# Altium footprint library Transistors.PcbLib: 36 footprints (part 2 of 3)
Each footprint in its own frame and in the unit in brackets; x right, y up, seen from the top. Pads: shape width x height; smd on the part's side, far side on the other; paste and mask are expansions set on the pad; w line width, h text height; cw(c..) or ccw(c..) is an arc to the next point about the centre after c.
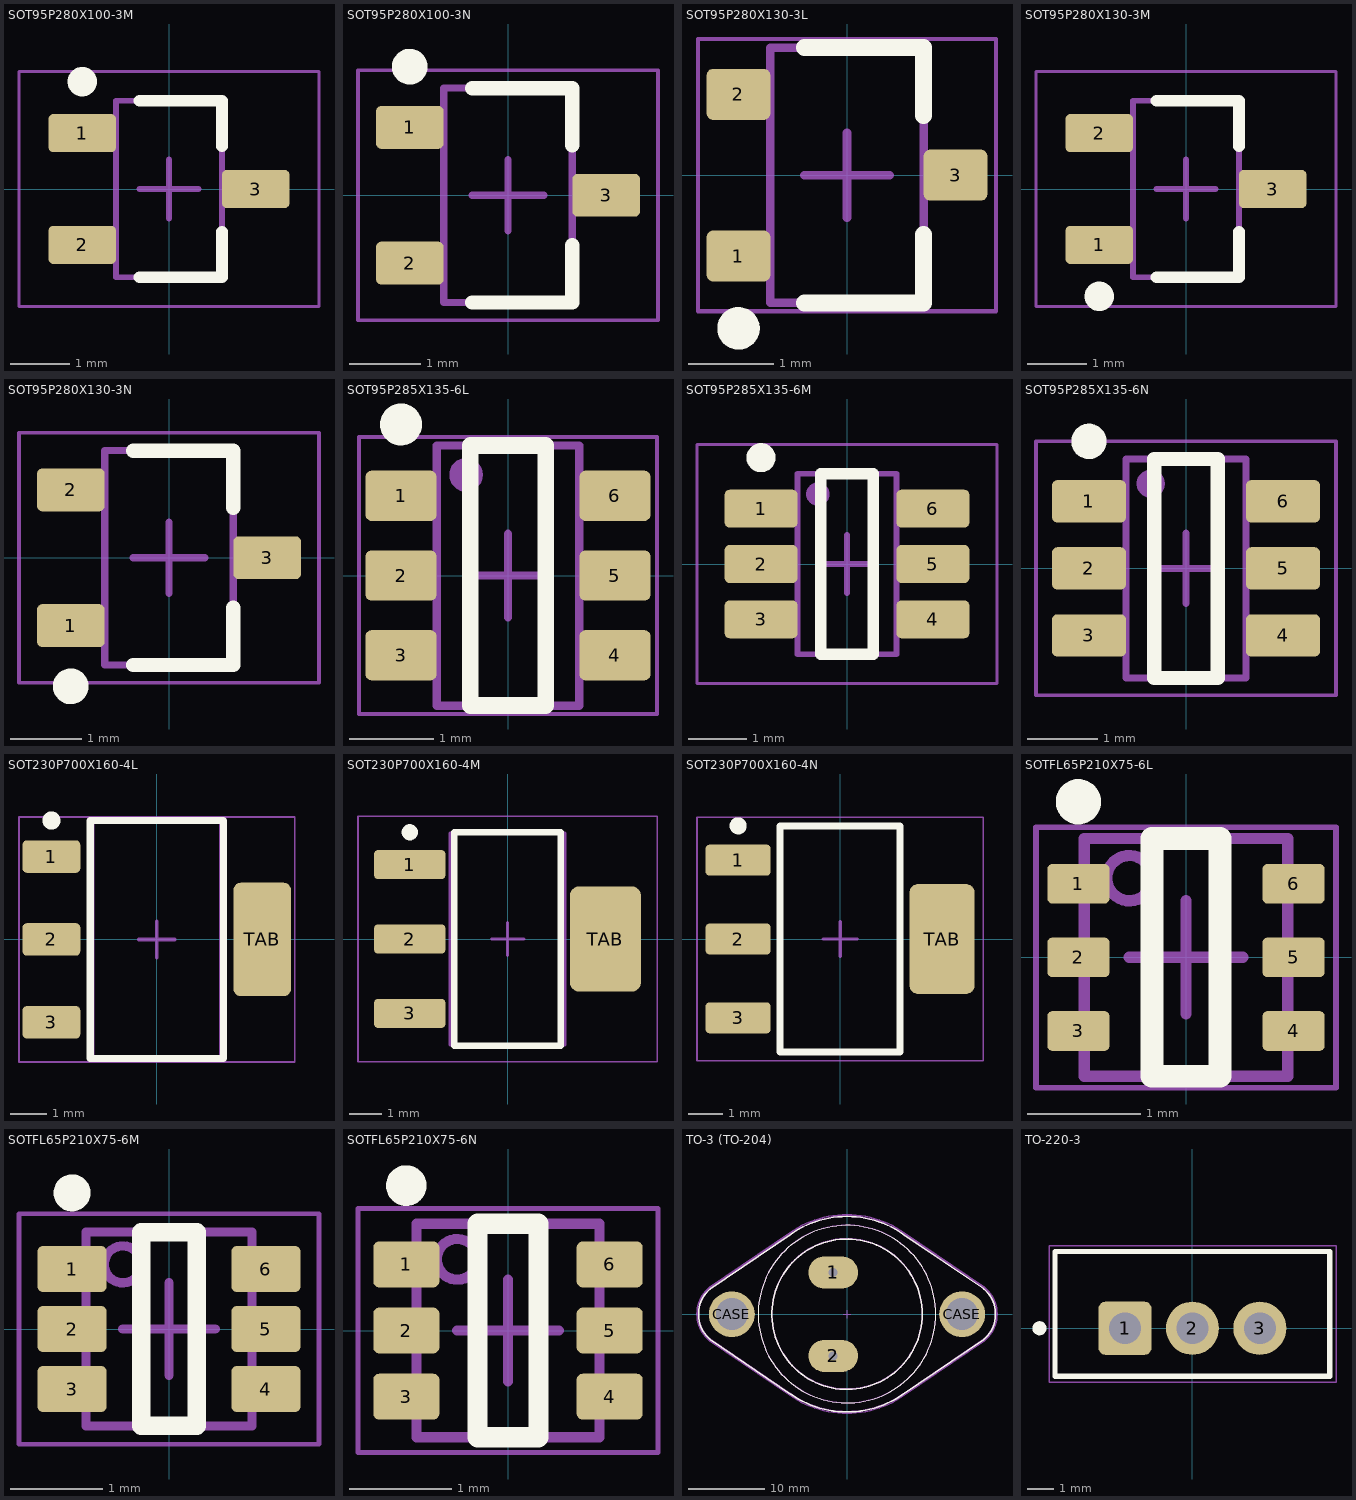
[diagram p1: the footprints below, top view; thin cyan lines are the x and y axes]

## SOT95P280X100-3M [mm] "SOT23, 3-Leads, Body 2.90x2.80mm, Pitch 0.95mm, IPC Low Density"
height 1
pads (3):
  rrect25% 1.15x0.65 smd paste+0 mask+0.05: 1(-1.475,0.95) 2(-1.475,-0.95) 3(1.475,0)
Top Overlay:
  circle w0.25: c-1.475,1.825 r0.125
  lines w0.2: -0.5,-1.5 0.9,-1.5 0.9,-0.725 ; -0.5,1.5 0.9,1.5 0.9,0.725
Top Component Outline:
  lines w0.1: -0.9,-1.5 0.9,-1.5 0.9,1.5 -0.9,1.5 -0.9,-1.5
Top Courtyard:
  lines w0.05: -2.55,-2 -2.55,2 2.55,2 2.55,-2 -2.55,-2
Top Component Center:
  lines w0.1: -0.5,0 0.5,0 ; 0,-0.5 0,0.5
Top Designator:
  text ".Designator" at -4.04,-0.476 h2
Top Assembly:
  lines w0.1: -0.9,-1.5 -0.9,1.5 0.9,1.5 0.9,-1.5 -0.9,-1.5
  text ".Designator" at -4.04,-0.476 h2
3D body "SOT95P280X100-3.step": height 1, standoff 0, extent -1.5,-1.5 1.5,1.5

## SOT95P280X100-3N [mm] "SOT23, 3-Leads, Body 2.90x2.80mm, Pitch 0.95mm, IPC Medium Density"
height 1
pads (3):
  rrect25% 0.95x0.6 smd paste+0 mask+0.05: 1(-1.375,0.95) 2(-1.375,-0.95) 3(1.375,0)
Top Overlay:
  circle w0.25: c-1.375,1.8 r0.125
  lines w0.2: -0.5,-1.5 0.9,-1.5 0.9,-0.7 ; -0.5,1.5 0.9,1.5 0.9,0.7
Top Component Outline:
  lines w0.1: -0.9,-1.5 0.9,-1.5 0.9,1.5 -0.9,1.5 -0.9,-1.5
Top Courtyard:
  lines w0.05: -2.1,-1.75 2.1,-1.75 2.1,1.75 -2.1,1.75 -2.1,-1.75
Top Component Center:
  lines w0.1: -0.5,0 0.5,0 ; 0,-0.5 0,0.5
Top Designator:
  text ".Designator" at -4.04,-0.476 h2
Top Assembly:
  lines w0.1: -0.9,-1.5 0.9,-1.5 0.9,1.5 -0.9,1.5 -0.9,-1.5
  text ".Designator" at -4.04,-0.476 h2
3D body "SOT95P280X100-3.step": height 1, standoff 0, extent -1.5,-1.5 1.5,1.5

## SOT95P280X130-3L [mm] "SOT23, 3-Leads, Body 2.90x2.80mm, Pitch 0.95mm, IPC High Density"
height 1.3
pads (3):
  rrect25% 0.75x0.6 smd paste+0 mask+0.05: 1(-1.275,-0.95) 2(-1.275,0.95) 3(1.275,0)
Top Overlay:
  circle w0.25: c-1.275,-1.8 r0.125
  lines w0.2: -0.5,-1.5 0.9,-1.5 0.9,-0.7 ; -0.5,1.5 0.9,1.5 0.9,0.7
Top Component Outline:
  lines w0.1: -0.9,-1.5 0.9,-1.5 0.9,1.5 -0.9,1.5 -0.9,-1.5
Top Courtyard:
  lines w0.05: -1.75,-1.6 1.75,-1.6 1.75,1.6 -1.75,1.6 -1.75,-1.6
Top Component Center:
  lines w0.1: -0.5,0 0.5,0 ; 0,-0.5 0,0.5
Top Designator:
  text ".Designator" at -4.04,-0.476 h2
Top Assembly:
  lines w0.1: -0.9,-1.5 0.9,-1.5 0.9,1.5 -0.9,1.5 -0.9,-1.5
  text ".Designator" at -4.04,-0.476 h2
3D body "SOT95P280X130-3.step": height 1.3, standoff 0, extent -1.5,-1.5 1.5,1.5

## SOT95P280X130-3M [mm] "SOT23, 3-Leads, Body 2.90x2.80mm, Pitch 0.95mm, IPC Low Density"
height 1.3
pads (3):
  rrect25% 1.15x0.65 smd paste+0 mask+0.05: 1(-1.475,-0.95) 2(-1.475,0.95) 3(1.475,0)
Top Overlay:
  circle w0.25: c-1.475,-1.825 r0.125
  lines w0.2: -0.5,-1.5 0.9,-1.5 0.9,-0.725 ; -0.5,1.5 0.9,1.5 0.9,0.725
Top Component Outline:
  lines w0.1: -0.9,-1.5 0.9,-1.5 0.9,1.5 -0.9,1.5 -0.9,-1.5
Top Courtyard:
  lines w0.05: -2.55,-2 2.55,-2 2.55,2 -2.55,2 -2.55,-2
Top Component Center:
  lines w0.1: -0.5,0 0.5,0 ; 0,-0.5 0,0.5
Top Designator:
  text ".Designator" at -4.04,-0.476 h2
Top Assembly:
  lines w0.1: -0.9,-1.5 0.9,-1.5 0.9,1.5 -0.9,1.5 -0.9,-1.5
  text ".Designator" at -4.04,-0.476 h2
3D body "SOT95P280X130-3.step": height 1.3, standoff 0, extent -1.5,-1.5 1.5,1.5

## SOT95P280X130-3N [mm] "SOT23, 3-Leads, Body 2.90x2.80mm, Pitch 0.95mm, IPC Medium Density"
height 1.3
pads (3):
  rrect25% 0.95x0.6 smd paste+0 mask+0.05: 1(-1.375,-0.95) 2(-1.375,0.95) 3(1.375,0)
Top Overlay:
  circle w0.25: c-1.375,-1.8 r0.125
  lines w0.2: -0.5,-1.5 0.9,-1.5 0.9,-0.7 ; -0.5,1.5 0.9,1.5 0.9,0.7
Top Component Outline:
  lines w0.1: -0.9,-1.5 -0.9,1.5 0.9,1.5 0.9,-1.5 -0.9,-1.5
Top Courtyard:
  lines w0.05: -2.1,-1.75 -2.1,1.75 2.1,1.75 2.1,-1.75 -2.1,-1.75
Top Component Center:
  lines w0.1: -0.5,0 0.5,0 ; 0,-0.5 0,0.5
Top Designator:
  text ".Designator" at -4.04,-0.476 h2
Top Assembly:
  lines w0.1: -0.9,-1.5 -0.9,1.5 0.9,1.5 0.9,-1.5 -0.9,-1.5
  text ".Designator" at -4.04,-0.476 h2
3D body "SOT95P280X130-3.step": height 1.3, standoff 0, extent -1.5,-1.5 1.5,1.5

## SOT95P285X135-6L [mm] "SOT23, 6-Leads, Body 3.00x2.85mm, Pitch 0.95mm, IPC High Density"
height 1.35
pads (6):
  rrect25% 0.85x0.6 smd paste+0 mask+0.05: 1(-1.275,0.95) 2(-1.275,0) 3(-1.275,-0.95) 4(1.275,-0.95) 5(1.275,0) 6(1.275,0.95)
Top Overlay:
  circle w0.25: c-1.275,1.8 r0.125
  lines w0.2: -0.45,-1.55 -0.45,1.55 0.45,1.55 0.45,-1.55 -0.45,-1.55
Top Courtyard:
  lines w0.05: -1.775,-1.65 1.775,-1.65 1.775,1.65 -1.775,1.65 -1.775,-1.65
Top Component Center:
  lines w0.1: -0.5,0 0.5,0 ; 0,-0.5 0,0.5
Top Designator:
  text ".Designator" at -4.04,-0.476 h2
Top Assembly:
  circle w0.2: c-0.5,1.2 r0.1
  lines w0.1: -0.85,-1.55 0.85,-1.55 0.85,1.55 -0.85,1.55 -0.85,-1.55
  text ".Designator" at -4.04,-0.476 h2
3D body "SOT95P285X135-6.step": height 1.35, standoff 0, extent -1.5,-1.55 1.5,1.55

## SOT95P285X135-6M [mm] "SOT23, 6-Leads, Body 3.00x2.85mm, Pitch 0.95mm, IPC Low Density"
height 1.35
pads (6):
  rrect25% 1.25x0.65 smd paste+0 mask+0.05: 1(-1.475,0.95) 2(-1.475,0) 3(-1.475,-0.95) 4(1.475,-0.95) 5(1.475,0) 6(1.475,0.95)
Top Overlay:
  circle w0.25: c-1.475,1.825 r0.125
  lines w0.2: -0.45,-1.55 -0.45,1.55 0.45,1.55 0.45,-1.55 -0.45,-1.55
Top Courtyard:
  lines w0.05: -2.575,-2.05 2.575,-2.05 2.575,2.05 -2.575,2.05 -2.575,-2.05
Top Component Center:
  lines w0.1: -0.5,0 0.5,0 ; 0,-0.5 0,0.5
Top Designator:
  text ".Designator" at -4.04,-0.476 h2
Top Assembly:
  circle w0.2: c-0.5,1.2 r0.1
  lines w0.1: -0.85,-1.55 0.85,-1.55 0.85,1.55 -0.85,1.55 -0.85,-1.55
  text ".Designator" at -4.04,-0.476 h2
3D body "SOT95P285X135-6.step": height 1.35, standoff 0, extent -1.5,-1.55 1.5,1.55

## SOT95P285X135-6N [mm] "SOT23, 6-Leads, Body 3.00x2.85mm, Pitch 0.95mm, IPC Medium Density"
height 1.35
pads (6):
  rrect25% 1.05x0.6 smd paste+0 mask+0.05: 1(-1.375,0.95) 2(-1.375,0) 3(-1.375,-0.95) 4(1.375,-0.95) 5(1.375,0) 6(1.375,0.95)
Top Overlay:
  circle w0.25: c-1.375,1.8 r0.125
  lines w0.2: -0.45,-1.55 -0.45,1.55 0.45,1.55 0.45,-1.55 -0.45,-1.55
Top Component Outline:
  lines w0.1: -0.85,-1.55 0.85,-1.55 0.85,1.55 -0.85,1.55 -0.85,-1.55
Top Courtyard:
  lines w0.05: -2.125,-1.8 2.125,-1.8 2.125,1.8 -2.125,1.8 -2.125,-1.8
Top Component Center:
  lines w0.1: -0.5,0 0.5,0 ; 0,-0.5 0,0.5
Top Designator:
  text ".Designator" at -4.04,-0.476 h2
Top Assembly:
  circle w0.2: c-0.5,1.2 r0.1
  lines w0.1: -0.85,-1.55 0.85,-1.55 0.85,1.55 -0.85,1.55 -0.85,-1.55
  text ".Designator" at -4.04,-0.476 h2
3D body "SOT95P285X135-6.step": height 1.35, standoff 0, extent -1.5,-1.55 1.5,1.55

## SOT230P700X160-4L [mm] "SOT223, 4-Leads, Body 6.50x7.00mm (avg), Pitch 2.30mm, IPC High Density"
height 1.6
pads (4):
  rrect25% 1.6x0.9 smd paste+0 mask+0.05: 1(-2.925,2.3) 2(-2.925,0) 3(-2.925,-2.3)
  rrect25% 1.6x3.15 smd paste+0 mask+0.05: TAB(2.925,0)
Top Overlay:
  circle w0.25: c-2.925,3.3 r0.125
  lines w0.2: -1.85,-3.3 -1.85,3.3 1.85,3.3 1.85,-3.3 -1.85,-3.3
Top Component Outline:
  lines w0.1: -1.775,-3.275 1.775,-3.275 1.775,3.275 -1.775,3.275 -1.775,-3.275
Top Courtyard:
  lines w0.05: -3.825,-3.4 -3.825,3.4 3.825,3.4 3.825,-3.4 -3.825,-3.4
Top Component Center:
  lines w0.1: -0.5,0 0.5,0 ; 0,-0.5 0,0.5
Top Designator:
  text ".Designator" at -4.04,-0.476 h2
Top Assembly:
  lines w0.1: -1.775,-3.275 -1.775,3.275 1.775,3.275 1.775,-3.275 -1.775,-3.275
  text ".Designator" at -4.04,-0.476 h2
3D body "SOT230P700X160-4.step": height 1.6, standoff 0, extent -3.5,-3.275 3.5,3.275

## SOT230P700X160-4M [mm] "SOT223, 4-Leads, Body 6.50x7.00mm (avg), Pitch 2.30mm, IPC Low Density"
height 1.6
pads (4):
  rrect25% 2.2x0.9 smd paste+0 mask+0.05: 1(-3.025,2.3) 2(-3.025,0) 3(-3.025,-2.3)
  rrect25% 2.2x3.25 smd paste+0 mask+0.05: TAB(3.025,0)
Top Overlay:
  circle w0.25: c-3.025,3.3 r0.125
  lines w0.2: -1.65,-3.3 -1.65,3.3 1.65,3.3 1.65,-3.3 -1.65,-3.3
Top Component Outline:
  lines w0.1: -1.775,-3.275 -1.775,3.275 1.775,3.275 1.775,-3.275 -1.775,-3.275
Top Courtyard:
  lines w0.05: -4.625,-3.8 -4.625,3.8 4.625,3.8 4.625,-3.8 -4.625,-3.8
Top Component Center:
  lines w0.1: -0.5,0 0.5,0 ; 0,-0.5 0,0.5
Top Designator:
  text ".Designator" at -4.04,-0.476 h2
Top Assembly:
  lines w0.1: -1.775,-3.275 -1.775,3.275 1.775,3.275 1.775,-3.275 -1.775,-3.275
  text ".Designator" at -4.04,-0.476 h2
3D body "SOT230P700X160-4.step": height 1.6, standoff 0, extent -3.5,-3.275 3.5,3.275

## SOT230P700X160-4N [mm] "SOT223, 4-Leads, Body 6.50x7.00mm (avg), Pitch 2.30mm, IPC Medium Density"
height 1.6
pads (4):
  rrect25% 1.9x0.9 smd paste+0 mask+0.05: 1(-2.975,2.3) 2(-2.975,0) 3(-2.975,-2.3)
  rrect25% 1.9x3.2 smd paste+0 mask+0.05: TAB(2.975,0)
Top Overlay:
  circle w0.25: c-2.975,3.3 r0.125
  lines w0.2: -1.75,-3.3 -1.75,3.3 1.75,3.3 1.75,-3.3 -1.75,-3.3
Top Component Outline:
  lines w0.1: -1.775,-3.275 -1.775,3.275 1.775,3.275 1.775,-3.275 -1.775,-3.275
Top Courtyard:
  lines w0.05: -4.175,-3.55 -4.175,3.55 4.175,3.55 4.175,-3.55 -4.175,-3.55
Top Component Center:
  lines w0.1: -0.5,0 0.5,0 ; 0,-0.5 0,0.5
Top Designator:
  text ".Designator" at -4.04,-0.476 h2
Top Assembly:
  lines w0.1: -1.775,-3.275 -1.775,3.275 1.775,3.275 1.775,-3.275 -1.775,-3.275
  text ".Designator" at -4.04,-0.476 h2
3D body "SOT230P700X160-4.step": height 1.6, standoff 0, extent -3.5,-3.275 3.5,3.275

## SOTFL65P210X75-6L [mm] "SOTFL, 6-Leads, Body 2.00x2.10mm, Pitch 0.65mm, IPC High Density"
height 0.75
pads (6):
  rrect25% 0.55x0.35 smd paste+0 mask+0.05: 1(-0.95,0.65) 2(-0.95,0) 3(-0.95,-0.65) 4(0.95,-0.65) 5(0.95,0) 6(0.95,0.65)
Top Overlay:
  circle w0.2: c-0.95,1.375 r0.1
  lines w0.2: -0.3,-1.05 0.3,-1.05 0.3,1.05 -0.3,1.05 -0.3,-1.05
Top Component Outline:
  lines w0.1: -0.9,-1.05 0.9,-1.05 0.9,1.05 -0.9,1.05 -0.9,-1.05
Top Courtyard:
  lines w0.05: -1.325,-1.15 -1.325,1.15 1.325,1.15 1.325,-1.15 -1.325,-1.15
Top Component Center:
  lines w0.1: -0.5,0 0.5,0 ; 0,-0.5 0,0.5
Top Designator:
  text ".Designator" at -4.04,-0.476 h2
Top Assembly:
  circle w0.1: c-0.5,0.7 r0.2
  lines w0.1: -0.9,-1.05 0.9,-1.05 0.9,1.05 -0.9,1.05 -0.9,-1.05
  text ".Designator" at -4.04,-0.476 h2
3D body "SOTFL65P210X75-6.step": height 0.75, standoff 0, extent -1.05,-1.048 1.05,1.048

## SOTFL65P210X75-6M [mm] "SOTFL, 6-Leads, Body 2.00x2.10mm, Pitch 0.65mm, IPC Low Density"
height 0.75
pads (6):
  rrect25% 0.75x0.5 smd paste+0 mask+0.05: 1(-1.05,0.65) 2(-1.05,0) 3(-1.05,-0.65) 4(1.05,-0.65) 5(1.05,0) 6(1.05,0.65)
Top Overlay:
  circle w0.2: c-1.05,1.475 r0.1
  lines w0.2: -0.3,-1.05 -0.3,1.05 0.3,1.05 0.3,-1.05 -0.3,-1.05
Top Component Outline:
  lines w0.1: -0.9,-1.05 0.9,-1.05 0.9,1.05 -0.9,1.05 -0.9,-1.05
Top Courtyard:
  lines w0.05: -1.625,-1.25 1.625,-1.25 1.625,1.25 -1.625,1.25 -1.625,-1.25
Top Component Center:
  lines w0.1: -0.5,0 0.5,0 ; 0,-0.5 0,0.5
Top Designator:
  text ".Designator" at -4.04,-0.476 h2
Top Assembly:
  circle w0.1: c-0.5,0.7 r0.2
  lines w0.1: -0.9,-1.05 0.9,-1.05 0.9,1.05 -0.9,1.05 -0.9,-1.05
  text ".Designator" at -4.04,-0.476 h2
3D body "SOTFL65P210X75-6.step": height 0.75, standoff 0, extent -1.05,-1.048 1.05,1.048

## SOTFL65P210X75-6N [mm] "SOTFL, 6-Leads, Body 2.00x2.10mm, Pitch 0.65mm, IPC Medium Density"
height 0.75
pads (6):
  rrect25% 0.65x0.45 smd paste+0 mask+0.05: 1(-1,0.65) 2(-1,0) 3(-1,-0.65) 4(1,-0.65) 5(1,0) 6(1,0.65)
Top Overlay:
  circle w0.2: c-1,1.425 r0.1
  lines w0.2: -0.3,-1.05 -0.3,1.05 0.3,1.05 0.3,-1.05 -0.3,-1.05
Top Component Outline:
  lines w0.1: -0.9,-1.05 0.9,-1.05 0.9,1.05 -0.9,1.05 -0.9,-1.05
Top Courtyard:
  lines w0.05: -1.475,-1.2 1.475,-1.2 1.475,1.2 -1.475,1.2 -1.475,-1.2
Top Component Center:
  lines w0.1: -0.5,0 0.5,0 ; 0,-0.5 0,0.5
Top Designator:
  text ".Designator" at -4.04,-0.476 h2
Top Assembly:
  circle w0.1: c-0.5,0.7 r0.2
  lines w0.1: -0.9,-1.05 0.9,-1.05 0.9,1.05 -0.9,1.05 -0.9,-1.05
  text ".Designator" at -4.04,-0.476 h2
3D body "SOTFL65P210X75-6.step": height 0.75, standoff 0, extent -1.05,-1.048 1.05,1.048

## TO-3 (TO-204) [mm] "Transistor Outline 3 (a.k.a. TO-204)"
height 8.92
pads (4):
  oval 6.5x4.2 hole 1.2 paste-1000 mask+0.05: 1(-1.815,5.46) 2(-1.815,-5.46)
  round 6 hole 4.19 unplated paste-1000 mask+0.05: CASE(-15.075,0) CASE(15.075,0)
Top Overlay:
  circle w0.2: c0,0 r9.845
  circle w0.1: c0,0 r11.62
  lines w0.2: -17.878,3.34 ccw(c-15.075,0) -17.878,-3.34 -7.38,-10.46 ; -17.86,3.35 -7.342,10.485 cw(c0,0) 7.342,10.485 17.85,3.36 ; -7.342,-10.485 ccw(c0,0) 7.342,-10.485 ; 7.32,-10.5 17.878,-3.34 ccw(c15.075,0) 17.878,3.34
Top Component Outline:
  circle w0.2: c0,0.05 r9.845
  circle w0.1: c0,0.05 r11.62
  lines w0.2: -17.878,3.39 ccw(c-15.075,0.05) -17.878,-3.29 -7.38,-10.41 ; -17.86,3.4 -7.342,10.535 cw(c0,0.05) 7.342,10.535 17.85,3.41 ; -7.342,-10.435 ccw(c0,0.05) 7.342,-10.435 ; 7.32,-10.45 17.878,-3.29 ccw(c15.075,0.05) 17.878,3.39
Top Courtyard:
  lines w0.2: -18.006,-3.468 cw(c-15.075,0.025) -18.006,3.518 ; -18.005,3.518 -7.456,10.674 cw(c0,0.025) 7.456,10.674 ; -17.995,-3.48 -7.456,-10.624 ccw(c0,0.025) 7.456,-10.624 ; 7.457,-10.623 18.006,-3.468 ccw(c15.075,0.025) 18.006,3.518 7.457,10.671
Top Component Center:
  lines w0.1: -0.5,0 0.5,0 ; 0,-0.5 0,0.5
Top Designator:
  text ".Designator" at -4.04,-0.476 h2
Top Assembly:
  circle w0.254: c15.075,0 r2.211
  circle w0.254: c-1.815,-5.465 r0.729
  circle w0.254: c-1.815,5.46 r0.725
  circle w0.254: c-15.075,0 r2.22
  circle w0.2: c0,0 r9.845
  circle w0.1: c0,0 r11.62
  lines w0.2: -17.878,3.34 ccw(c-15.075,0) -17.878,-3.34 -7.38,-10.46 ; -17.86,3.35 -7.342,10.485 cw(c0,0) 7.342,10.485 17.85,3.36 ; -7.342,-10.485 ccw(c0,0) 7.342,-10.485 ; 7.32,-10.5 17.878,-3.34 ccw(c15.075,0) 17.878,3.34
  text ".Designator" at -4.04,-0.476 h2
3D body "TO-3 (TO-204).step": height 8.92, standoff -13.1, extent -19.433,-12.75 19.433,12.732

## TO-220-3 [mm] "Transistor Outline 3 Leads"
height 19.65
pads (3):
  rrect25% 2x2 hole 1.2 paste-1000 mask+0.05: 1(-2.54,0)
  round 2 hole 1.2 paste-1000 mask+0.05: 2(0,0) 3(2.54,0)
Top Overlay:
  circle w0.27: c-5.765,0 r0.13
  lines w0.2: -5.18,-1.81 5.18,-1.81 5.18,2.89 -5.18,2.89 -5.18,-1.81
Top Component Outline:
  lines w0.1: -5.18,-1.81 -5.18,2.89 5.18,2.89 5.18,-1.81 -5.18,-1.81
Top Courtyard:
  lines w0.05: -5.39,-2.025 5.41,-2.025 5.41,3.1 -5.39,3.1 -5.39,-2.025
Top Component Center:
  lines w0.1: -0.5,0 0.5,0 ; 0,-0.5 0,0.5
Top Designator:
  text ".Designator" at -4.04,-0.476 h2
Top Assembly:
  circle w0.27: c-2.54,0 r0.13
  lines w0.1: -3.144,-0.608 -1.944,-0.608 ; -3.14,-0.604 -3.14,0.596 -1.94,0.596 ; -1.936,-0.604 -1.936,0.596 ; -5.165,-1.775 -5.165,2.875 5.16,2.875 5.16,-1.8 -5.14,-1.8 -5.165,-1.775
  text ".Designator" at -4.03,-0.476 h2
3D body "TO-220-3.step": height 19.65, standoff -9.22, extent -5.08,-1.756 5.08,2.794